# EAGLE library part EP4CE6E22C8N (library PP_DigitalIC)
Manufacturer Part #: EP4CE6E22C8N Manufacturer: Altera Description: FPGA - Field Programmable Gate Array FPGA - Cyclone IV E 392 LABs 91 IOs URL: http://www.mouser.com/ds/2/591/cyiv-51001-472857.pdf
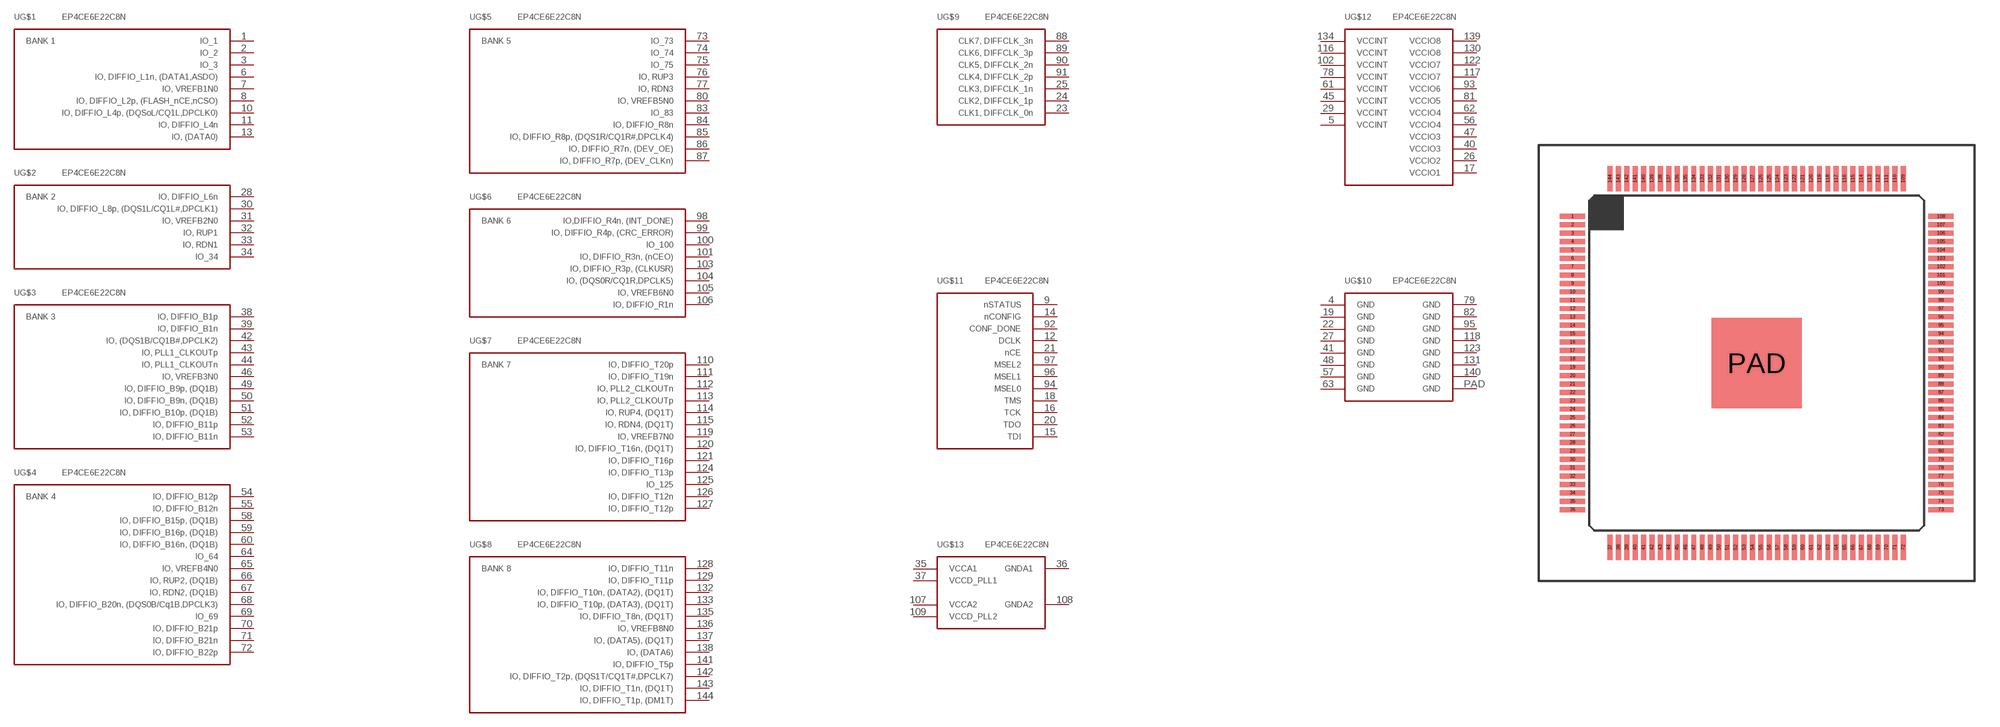
[diagram p25: symbol with the pads of EQFP-144; footprint EQFP-144]

Designator prefix U; gates G$1=EP4CE6E22C8N_A G$2=EP4CE6E22C8N_B G$3=EP4CE6E22C8N_C G$4=EP4CE6E22C8N_D G$5=EP4CE6E22C8N_E G$6=EP4CE6E22C8N_F G$7=EP4CE6E22C8N_G G$8=EP4CE6E22C8N_H G$9=EP4CE6E22C8N_I G$11=EP4CE6E22C8N_J G$12=EP4CE6E22C8N_K G$13=EP4CE6E22C8N_M G$10=EP4CE6E22C8N_L

## EP4CE6E22C8N  [EQFP-144]
1  G$1:1
2  G$1:2
3  G$1:3
4  G$10:4
5  G$12:5
6  G$1:6
7  G$1:7
8  G$1:8
9  G$11:9
10  G$1:10
11  G$1:11
12  G$11:12
13  G$1:13
14  G$11:14
15  G$11:15
16  G$11:16
17  G$12:17
18  G$11:18
19  G$10:19
20  G$11:20
21  G$11:21
22  G$10:22
23  G$9:23
24  G$9:24
25  G$9:25
26  G$12:26
27  G$10:27
28  G$2:28
29  G$12:29
30  G$2:30
31  G$2:31
32  G$2:32
33  G$2:33
34  G$2:34
35  G$13:35
36  G$13:36
37  G$13:37
38  G$3:38
39  G$3:39
40  G$12:40
41  G$10:41
42  G$3:42
43  G$3:43
44  G$3:44
45  G$12:45
46  G$3:46
47  G$12:47
48  G$10:48
49  G$3:49
50  G$3:50
51  G$3:51
52  G$3:52
53  G$3:53
54  G$4:54
55  G$4:55
56  G$12:56
57  G$10:57
58  G$4:58
59  G$4:59
60  G$4:60
61  G$12:61
62  G$12:62
63  G$10:63
64  G$4:64
65  G$4:65
66  G$4:66
67  G$4:67
68  G$4:68
69  G$4:69
70  G$4:70
71  G$4:71
72  G$4:72
73  G$5:73
74  G$5:74
75  G$5:75
76  G$5:76
77  G$5:77
78  G$12:78
79  G$10:79
80  G$5:80
81  G$12:81
82  G$10:82
83  G$5:83
84  G$5:84
85  G$5:85
86  G$5:86
87  G$5:87
88  G$9:88
89  G$9:89
90  G$9:90
91  G$9:91
92  G$11:92
93  G$12:93
94  G$11:94
95  G$10:95
96  G$11:96
97  G$11:97
98  G$6:98
99  G$6:99
100  G$6:100
101  G$6:101
102  G$12:102
103  G$6:103
104  G$6:104
105  G$6:105
106  G$6:106
107  G$13:107
108  G$13:108
109  G$13:109
110  G$7:110
111  G$7:111
112  G$7:112
113  G$7:113
114  G$7:114
115  G$7:115
116  G$12:116
117  G$12:117
118  G$10:118
119  G$7:119
120  G$7:120
121  G$7:121
122  G$12:122
123  G$10:123
124  G$7:124
125  G$7:125
126  G$7:126
127  G$7:127
128  G$8:128
129  G$8:129
130  G$12:130
131  G$10:131
132  G$8:132
133  G$8:133
134  G$12:134
135  G$8:135
136  G$8:136
137  G$8:137
138  G$8:138
139  G$12:139
140  G$10:140
141  G$8:141
142  G$8:142
143  G$8:143
144  G$8:144
PAD  G$10:145

## Footprint EQFP-144 (pad centres in mm)
Description: EQFP-144 Package for Altera Devices. URL: http://wl.altera.com/devicepackaging/04R00402-01.pdf
smd 1.5 x 0.3: 1 -11,8.75; 2 -11,8.25; 3 -11,7.75; 4 -11,7.25; 5 -11,6.75; 6 -11,6.25; 7 -11,5.75; 8 -11,5.25; 9 -11,4.75; 10 -11,4.25; 11 -11,3.75; 12 -11,3.25; 13 -11,2.75; 14 -11,2.25; 15 -11,1.75; 16 -11,1.25; 17 -11,0.75; 18 -11,0.25; 19 -11,-0.25; 20 -11,-0.75; 21 -11,-1.25; 22 -11,-1.75; 23 -11,-2.25; 24 -11,-2.75; 25 -11,-3.25; 26 -11,-3.75; 27 -11,-4.25; 28 -11,-4.75; 29 -11,-5.25; 30 -11,-5.75; 31 -11,-6.25; 32 -11,-6.75; 33 -11,-7.25; 34 -11,-7.75; 35 -11,-8.25; 36 -11,-8.75; 73 11,-8.75; 74 11,-8.25; 75 11,-7.75; 76 11,-7.25; 77 11,-6.75; 78 11,-6.25; 79 11,-5.75; 80 11,-5.25; 81 11,-4.75; 82 11,-4.25; 83 11,-3.75; 84 11,-3.25; 85 11,-2.75; 86 11,-2.25; 87 11,-1.75; 88 11,-1.25; 89 11,-0.75; 90 11,-0.25; 91 11,0.25; 92 11,0.75; 93 11,1.25; 94 11,1.75; 95 11,2.25; 96 11,2.75; 97 11,3.25; 98 11,3.75; 99 11,4.25; 100 11,4.75; 101 11,5.25; 102 11,5.75; 103 11,6.25; 104 11,6.75; 105 11,7.25; 106 11,7.75; 107 11,8.25; 108 11,8.75
smd 0.3 x 1.5: 37 -8.75,-11; 38 -8.25,-11; 39 -7.75,-11; 40 -7.25,-11; 41 -6.75,-11; 42 -6.25,-11; 43 -5.75,-11; 44 -5.25,-11; 45 -4.75,-11; 46 -4.25,-11; 47 -3.75,-11; 48 -3.25,-11; 49 -2.75,-11; 50 -2.25,-11; 51 -1.75,-11; 52 -1.25,-11; 53 -0.75,-11; 54 -0.25,-11; 55 0.25,-11; 56 0.75,-11; 57 1.25,-11; 58 1.75,-11; 59 2.25,-11; 60 2.75,-11; 61 3.25,-11; 62 3.75,-11; 63 4.25,-11; 64 4.75,-11; 65 5.25,-11; 66 5.75,-11; 67 6.25,-11; 68 6.75,-11; 69 7.25,-11; 70 7.75,-11; 71 8.25,-11; 72 8.75,-11; 109 8.75,11; 110 8.25,11; 111 7.75,11; 112 7.25,11; 113 6.75,11; 114 6.25,11; 115 5.75,11; 116 5.25,11; 117 4.75,11; 118 4.25,11; 119 3.75,11; 120 3.25,11; 121 2.75,11; 122 2.25,11; 123 1.75,11; 124 1.25,11; 125 0.75,11; 126 0.25,11; 127 -0.25,11; 128 -0.75,11; 129 -1.25,11; 130 -1.75,11; 131 -2.25,11; 132 -2.75,11; 133 -3.25,11; 134 -3.75,11; 135 -4.25,11; 136 -4.75,11; 137 -5.25,11; 138 -5.75,11; 139 -6.25,11; 140 -6.75,11; 141 -7.25,11; 142 -7.75,11; 143 -8.25,11; 144 -8.75,11
smd 5.4 x 5.4: PAD 0,0